# EAGLE library part 6C33C-B (library old Tubes)
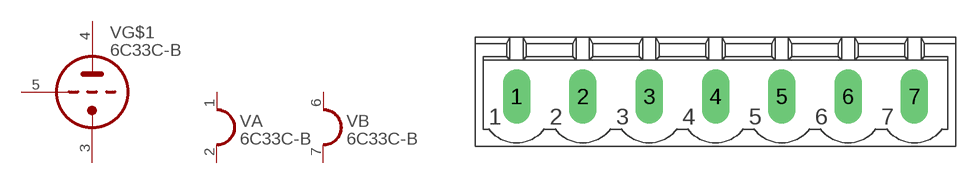
[diagram p84: symbol with the pads of MSTBV7; footprint MSTBV7]

Designator prefix V; gates G$1=TRIODE A=HEATER_1 B=HEATER_1

## 6C33C-B  [MSTBV7]
1  A:H1  pas
2  A:H2  pas
3  G$1:TK  pas
4  G$1:TA  pas
5  G$1:TG  pas
6  B:H1  pas
7  B:H2  pas

## Footprint MSTBV7 (pad centres in mm)
drill 1.397 pad 1.905 long: 1 -15.24,0; 2 -10.16,0; 3 -5.08,0; 4 0,0; 5 5.08,0; 6 10.16,0; 7 15.24,0